# Altium footprint library TI Logic Flip-Flop.PcbLib: 69 footprints (part 5 of 5)
Each footprint in its own frame and in the unit in brackets; x right, y up, seen from the top. Pads: shape width x height; smd on the part's side, far side on the other; paste and mask are expansions set on the pad; w line width, h text height; cw(c..) or ccw(c..) is an arc to the next point about the centre after c.
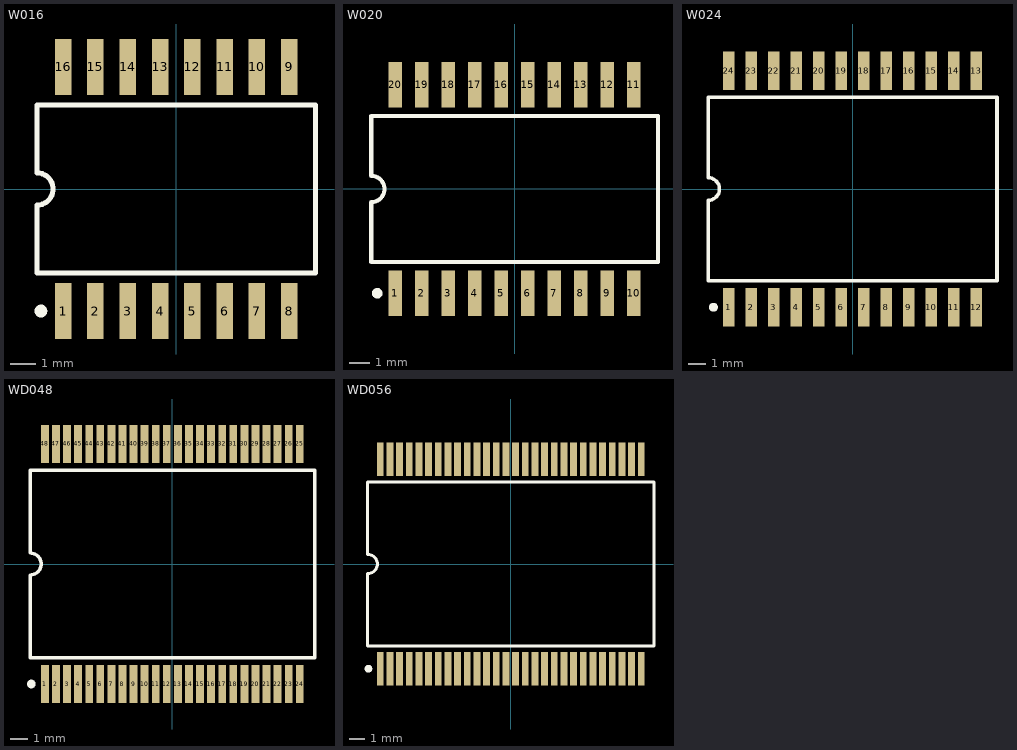
[diagram p4: the footprints below, top view; thin cyan lines are the x and y axes]

## W016 [mm] "DFP; 16 Leads; Body 10.9 x 7.2 mm (LxW max); Pitch 1.27 mm"
height 2.03
pads (16):
  rect 0.65x2.2 smd: 1(-4.445,-4.8) 2(-3.175,-4.8) 3(-1.905,-4.8) 4(-0.635,-4.8) 5(0.635,-4.8) 6(1.905,-4.8) 7(3.175,-4.8) 8(4.445,-4.8) 9(4.445,4.8) 10(3.175,4.8) 11(1.905,4.8) 12(0.635,4.8) 13(-0.635,4.8) 14(-1.905,4.8) 15(-3.175,4.8) 16(-4.445,4.8)
Top Overlay:
  circle w0.25: c-5.32,-4.8 r0.125
  lines w0.2: -5.475,-3.3 5.475,-3.3 5.475,3.3 -5.475,3.3 -5.475,0.635 cw(c-5.475,0) -5.475,-0.635 -5.475,-3.3

## W020 [mm] "DFP; 20 Leads; Body 13.7 x 7.6 mm (LxW max); Pitch 1.27 mm"
height 2.54
pads (20):
  rect 0.65x2.2 smd: 1(-5.715,-5) 2(-4.445,-5) 3(-3.175,-5) 4(-1.905,-5) 5(-0.635,-5) 6(0.635,-5) 7(1.905,-5) 8(3.175,-5) 9(4.445,-5) 10(5.715,-5) 11(5.715,5) 12(4.445,5) 13(3.175,5) 14(1.905,5) 15(0.635,5) 16(-0.635,5) 17(-1.905,5) 18(-3.175,5) 19(-4.445,5) 20(-5.715,5)
Top Overlay:
  circle w0.25: c-6.59,-5 r0.125
  lines w0.2: -6.875,-3.5 -6.875,-0.635 ccw(c-6.875,0) -6.875,0.635 -6.875,3.5 6.875,3.5 6.875,-3.5 -6.875,-3.5

## W024 [mm] "DFP; 24 Leads; Body 16.3 x 9.5 mm (LxW max); Pitch 1.27 mm"
height 2.29
pads (24):
  rect 0.65x2.2 smd: 1(-6.985,-6.675) 2(-5.715,-6.675) 3(-4.445,-6.675) 4(-3.175,-6.675) 5(-1.905,-6.675) 6(-0.635,-6.675) 7(0.635,-6.675) 8(1.905,-6.675) 9(3.175,-6.675) 10(4.445,-6.675) 11(5.715,-6.675) 12(6.985,-6.675) 13(6.985,6.675) 14(5.715,6.675) 15(4.445,6.675) 16(3.175,6.675) 17(1.905,6.675) 18(0.635,6.675) 19(-0.635,6.675) 20(-1.905,6.675) 21(-3.175,6.675) 22(-4.445,6.675) 23(-5.715,6.675) 24(-6.985,6.675)
Top Overlay:
  circle w0.25: c-7.86,-6.675 r0.125
  lines w0.2: -8.15,-5.175 8.15,-5.175 8.15,5.175 -8.15,5.175 -8.15,0.635 cw(c-8.15,0) -8.15,-0.635 -8.15,-5.175

## WD048 [mm] "DFP; 48 Leads; Body 16.3 x 9.9 mm (LxW max); Pitch 0.635 mm"
height 3.05
pads (48):
  rect 0.45x2.2 smd: 1(-7.302,-6.875) 2(-6.667,-6.875) 3(-6.032,-6.875) 4(-5.397,-6.875) 5(-4.763,-6.875) 6(-4.127,-6.875) 7(-3.492,-6.875) 8(-2.857,-6.875) 9(-2.222,-6.875) 10(-1.587,-6.875) 11(-0.953,-6.875) 12(-0.318,-6.875) 13(0.318,-6.875) 14(0.953,-6.875) 15(1.587,-6.875) 16(2.222,-6.875) 17(2.857,-6.875) 18(3.492,-6.875) 19(4.127,-6.875) 20(4.763,-6.875) 21(5.397,-6.875) 22(6.032,-6.875) 23(6.667,-6.875) 24(7.302,-6.875) 25(7.302,6.875) 26(6.667,6.875) 27(6.032,6.875) 28(5.397,6.875) 29(4.763,6.875) 30(4.127,6.875) 31(3.492,6.875) 32(2.857,6.875) 33(2.222,6.875) 34(1.587,6.875) 35(0.953,6.875) 36(0.318,6.875) 37(-0.318,6.875) 38(-0.953,6.875) 39(-1.587,6.875) 40(-2.222,6.875) 41(-2.857,6.875) 42(-3.492,6.875) 43(-4.127,6.875) 44(-4.763,6.875) 45(-5.397,6.875) 46(-6.032,6.875) 47(-6.667,6.875) 48(-7.302,6.875)
Top Overlay:
  circle w0.25: c-8.077,-6.875 r0.125
  lines w0.2: -8.15,-5.375 -8.15,-0.635 ccw(c-8.15,0) -8.15,0.635 -8.15,5.375 8.15,5.375 8.15,-5.375 -8.15,-5.375

## WD056 [mm] "DFP; 56 Leads; Body 18.8 x 9.9 mm (LxW max); Pitch 0.635 mm"
height 3.05
pads (56):
  rect 0.45x2.2 smd: 1(-8.572,-6.875) 2(-7.938,-6.875) 3(-7.302,-6.875) 4(-6.667,-6.875) 5(-6.032,-6.875) 6(-5.397,-6.875) 7(-4.763,-6.875) 8(-4.127,-6.875) 9(-3.492,-6.875) 10(-2.857,-6.875) 11(-2.222,-6.875) 12(-1.587,-6.875) 13(-0.953,-6.875) 14(-0.318,-6.875) 15(0.318,-6.875) 16(0.953,-6.875) 17(1.587,-6.875) 18(2.222,-6.875) 19(2.857,-6.875) 20(3.492,-6.875) 21(4.127,-6.875) 22(4.763,-6.875) 23(5.397,-6.875) 24(6.032,-6.875) 25(6.667,-6.875) 26(7.302,-6.875) 27(7.938,-6.875) 28(8.572,-6.875) 29(8.572,6.875) 30(7.938,6.875) 31(7.302,6.875) 32(6.667,6.875) 33(6.032,6.875) 34(5.397,6.875) 35(4.763,6.875) 36(4.127,6.875) 37(3.492,6.875) 38(2.857,6.875) 39(2.222,6.875) 40(1.587,6.875) 41(0.953,6.875) 42(0.318,6.875) 43(-0.318,6.875) 44(-0.953,6.875) 45(-1.587,6.875) 46(-2.222,6.875) 47(-2.857,6.875) 48(-3.492,6.875) 49(-4.127,6.875) 50(-4.763,6.875) 51(-5.397,6.875) 52(-6.032,6.875) 53(-6.667,6.875) 54(-7.302,6.875) 55(-7.938,6.875) 56(-8.572,6.875)
Top Overlay:
  circle w0.25: c-9.347,-6.875 r0.125
  lines w0.2: -9.4,-5.375 9.4,-5.375 9.4,5.375 -9.4,5.375 -9.4,0.635 cw(c-9.4,0) -9.4,-0.635 -9.4,-5.375